# EAGLE library part MOLEX-53309-1029 (library GTEEL_gwu_mpnl_ucat_v10)
0.8 Board to Board Conn. Wafer Assy R/A SMT (Without Boss) Molex No: 53309-1029 Mates with: 52466 Ref: SD-53309-011 2006/04/15
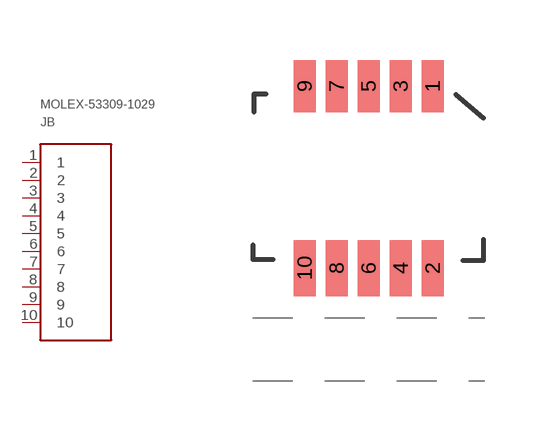
[diagram p21: symbol with the pads of MOLEX-53309-1029; footprint MOLEX-53309-1029]

Designator prefix JB

## MOLEX-53309-1029  [MOLEX-53309-1029]
1  1
2  2
3  3
4  4
5  5
6  6
7  7
8  8
9  9
10  10

## Footprint MOLEX-53309-1029 (pad centres in mm)
smd 0.55 x 1.3: 1 1.6,2.275; 3 0.8,2.275; 5 0,2.275; 7 -0.8,2.275; 9 -1.6,2.275
smd 0.55 x 1.4: 2 1.6,-2.275; 4 0.8,-2.275; 6 0,-2.275; 8 -0.8,-2.275; 10 -1.6,-2.275